# Altium integrated library RP73D1J232KBTDG.IntLib: 1 symbol
Pins are listed as number, name and electrical type; pins without a type are passive.

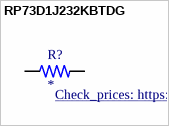
[diagram p0: symbol RP73D1J232KBTDG]

## RP73D1J232KBTDG
designator R?
Surface Mount Chip Resistor, Thin Film, RP73 Series, 232 kohm, 100 mW, 0.1%, 50 V; MP: RP73D1J232KBTDG; MF: TE Connectivity; Package: 0603 TE Connectivity / AMP; Mouser-Purchase-URL: https://snapeda.com/shop?store=Mouser&id=910763; Value: *; SnapEDA_Link: https://www.snapeda.com/parts/RP73D1J232KBTDG/TE%20Connectivity/view-part/910763/?ref=snap; Availability: Bad; Price: None; Check_prices: https://www.snapeda.com/parts/RP73D1J232KBTDG/TE%20Connectivity/view-part/910763/?ref=eda
footprint RESC1608X50N
pins: 1, 2